# Altium footprint library Flexprint_Serverport.PcbLib: 5 footprints
Each footprint in its own frame and in the unit in brackets; x right, y up, seen from the top. Pads: shape width x height; smd on the part's side, far side on the other; paste and mask are expansions set on the pad; w line width, h text height; cw(c..) or ccw(c..) is an arc to the next point about the centre after c.
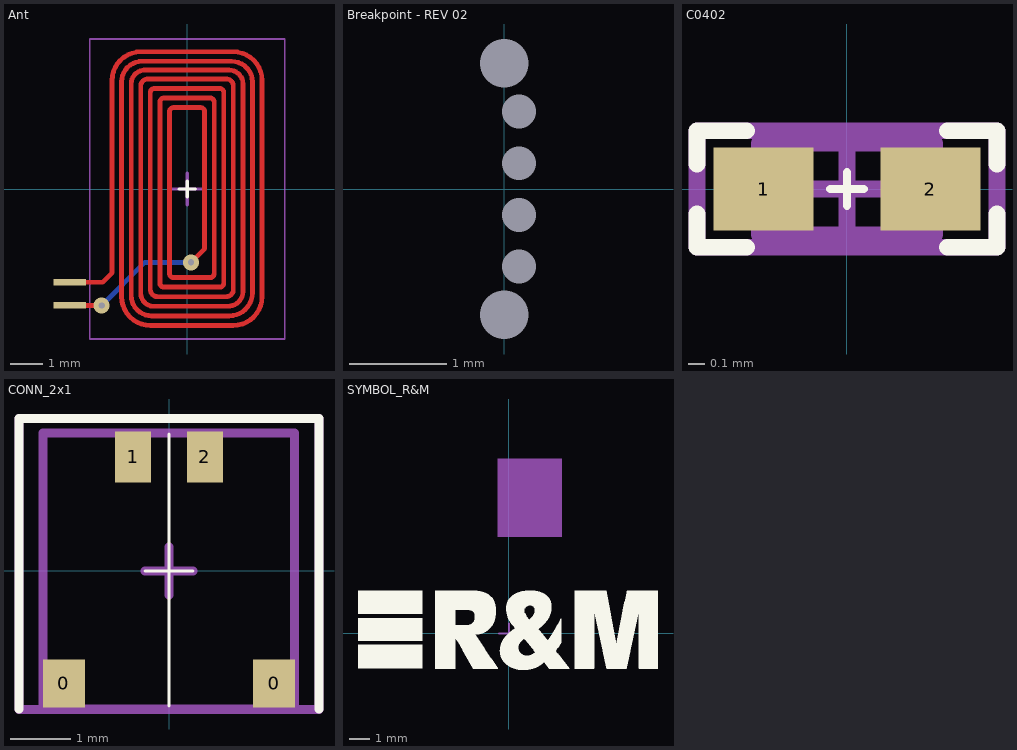
[diagram p0: the footprints below, top view; thin cyan lines are the x and y axes]

## Ant [mil] "Antenna for Serverport"
pads (2):
  rect 40x8 smd: 1(-145,-143.7) 2(-145,-115)
via 4.72,-90.55 diameter 19.68 hole 7.87
via -105.51,-143.7 diameter 19.68 hole 7.87
Top Layer:
  lines w5.91: -145,-143.7 -105.51,-143.7 ; -145,-115 -115,-115 -104.37,-115 -92.72,-103.35 -92.72,133.86 cw(c-57.28,133.86) -57.28,169.29 56.89,169.29 cw(c56.89,133.86) 92.32,133.86 92.32,-132.87 cw(c56.89,-132.87) 56.89,-168.31 -45.47,-168.31 cw(c-45.47,-132.87) -80.91,-132.87 -80.91,132.3 cw(c-55.73,132.3) -55.73,157.48 54.92,157.48 cw(c54.92,131.89) 80.51,132.3 ; -53.2,146.65 -52.48,146.65 ; -52.36,146.65 ccw(c-52.36,129.92) -52.48,146.65 ; -42.52,-144.69 50.49,-144.69 ; -42.51,-144.61 cw(c-41.54,-128.94) -57.24,-128.79 -57.29,126.97 cw(c-48.43,126.97) -48.43,135.83 ; -36.61,-132.88 48.03,-132.88 ccw(c48.03,-124.02) 56.89,-124.02 56.89,126.97 ccw(c48.03,126.97) 48.03,135.83 -48.43,135.83 ; -36.61,-132.87 cw(c-36.61,-124.01) -45.48,-124.01 -45.48,119.1 cw(c-40.55,119.1) -40.55,124.02 40.16,124.02 ; -21.86,94.49 -21.86,-104.33 ccw(c-16.93,-104.33) -16.93,-109.26 ; -21.85,95.47 cw(c-16.92,95.47) -16.92,100.4 16.53,100.4 cw(c16.54,95.47) 21.46,95.47 21.46,-73.81 4.72,-90.55 ; -15.94,-109.26 28.34,-109.26 ccw(c28.34,-104.33) 33.27,-104.33 33.27,107.28 ccw(c28.35,107.28) 28.35,112.2 ; 50.32,-144.69 ccw(c50.49,-126.48) 68.71,-126.48 68.7,129.92 ; 80.51,131.89 ccw(c54.92,131.89) 80.51,132.3 ; -52.48,146.65 ccw(c-52.36,129.92) -69.09,129.92 -69.09,-131.32 ccw(c-43.91,-131.32) -43.91,-156.5 51.97,-156.5 ccw(c51.97,-127.95) 80.51,-127.95 80.51,132.3 ; -52.48,146.65 51.97,146.65 cw(c51.97,129.92) 68.7,129.92 ; -48.43,135.83 -48.43,135.83 ; 28.35,112.2 -28.74,112.21 ccw(c-28.74,107.28) -33.66,107.28 -33.66,-116.14 ccw(c-28.73,-116.14) -28.73,-121.07 40.15,-121.07 ccw(c40.15,-116.14) 45.08,-116.14 45.09,119.09 ccw(c40.16,119.09) 40.16,124.02 ; 28.35,112.2 28.35,112.2 ; 40.16,124.02 40.16,124.02 ; 68.7,129.92 68.7,129.92
Bottom Layer:
  lines w5.91: -105.51,-143.7 -52.36,-90.55 4.72,-90.55
Top Overlay:
  lines w3.94: -9.84,0 9.84,0 ; 0,-9.84 0,9.84
Mechanical 13:
  lines w1.97: -120.08,-185.04 -120.08,185.04 120.08,185.04 120.08,-185.04 -120.08,-185.04
  lines w3.94: -19.69,0 19.68,0 ; 0,-19.68 0,19.69
Mechanical 15:
  lines w1.97: -120.08,-185.04 -120.08,185.04 120.08,185.04 120.08,-185.04 -120.08,-185.04
  lines w3.94: -19.69,0 19.68,0 ; 0,-19.68 0,19.69

## Breakpoint - REV 02 [mm]
pads (8):
  round 0 hole 0.35 unplated paste+0: 0(0,-1.3) 0(0,1.3) 0(0.15,-0.8) 0(0.15,-0.267) 0(0.15,0.267) 0(0.15,0.8)
  round 0 hole 0.5 unplated paste+0: 0(0,-1.3) 0(0,1.3)

## C0402 [mm]
pads (2):
  rect 0.6x0.5 smd mask+0.05: 1(-0.5,0) 2(0.5,0)
Top Overlay:
  lines w0.05: -0.1,0 0,0 ; 0,-0.1 0,0 ; 0,0.1 0,0 ; 0.1,0 0,0
  lines w0.1: -0.9,-0.149 -0.9,-0.35 -0.603,-0.35 ; -0.9,0.149 -0.9,0.35 -0.603,0.35 ; 0.603,-0.35 0.9,-0.35 0.9,-0.149 ; 0.603,0.35 0.9,0.35 0.9,0.149
Mechanical 13:
  lines w0.1: -0.525,-0.275 -0.525,0.275 0.525,0.275 0.525,-0.275 -0.525,-0.275
Mechanical 15:
  lines w0.1: -0.275,0 0.275,0 ; 0,-0.275 0,0.275 ; -0.9,-0.35 0.9,-0.35 0.9,0.35 -0.9,0.35 -0.9,-0.35
3D body "Chip Capacitor_0402.stp": height 0.6, standoff 0, extent -0.5,-0.25 0.5,0.25

## CONN_2x1 [mm] "Molex Connector 2x1 Pin"
pads (4):
  rect 0.7x0.8 smd mask+0: 0(-1.75,-1.875) 0(1.75,-1.875)
  rect 0.6x0.85 smd mask+0: 1(-0.6,1.9) 2(0.6,1.9)
Top Overlay:
  lines w0.05: -0.4,0 0.4,0 ; 0,-2.25 0,2.28
  lines w0.15: -2.5,-2.3 -2.5,2.54 2.5,2.54 2.5,-2.3
Mechanical 13:
  lines w0.15: -2.1,-2.3 2.092,-2.3 2.092,2.3 -2.1,2.3 -2.1,-2.3
Mechanical 15:
  lines w0.15: -0.4,0 0.4,0 ; 0,-0.4 0,0.4 ; 2.5,-2.31 -2.5,-2.31 -2.5,2.54 2.5,2.54 2.5,-2.3
3D body "781710002.stp": height 1.45, standoff 0, extent -2.1,-2.25 2.1,2.28

## SYMBOL_R&M [mm] "Reichle & De-Massari printing"
Top Overlay:
  drawing of 1139 lines, arcs and shapes, not listed
Mechanical 1:
  region: -0.55,8.735 2.64,8.735 2.64,4.825 -0.55,4.825
Mechanical 15:
  lines w0.1: -0.5,0 0.5,0 ; 0,-0.5 0,0.5